# Altium schematic symbol library LAN8700C-AEZG-TR.SchLib: 2 symbols
Pins are listed as number, name and electrical type; pins without a type are passive.

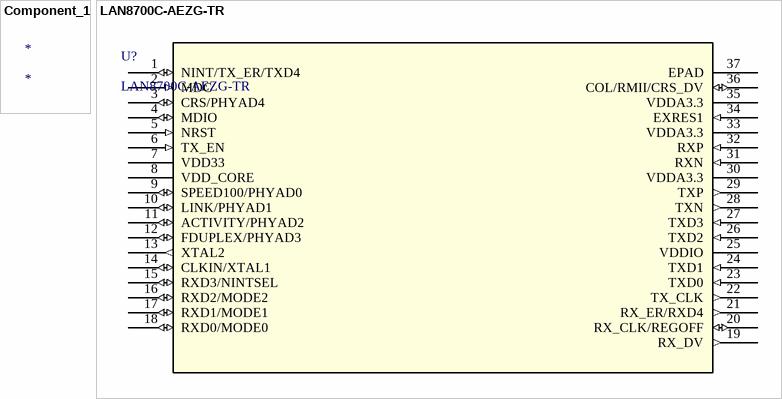
[diagram p0: symbols Component_1 to LAN8700C-AEZG-TR]

## Component_1
designator *

## LAN8700C-AEZG-TR
designator U?
No Description Available; Mfr_Name: Microchip; Copyright: Copyright (C) 2021 Ultra Librarian. All rights reserved.; Manufacturer_Part_Number: LAN8700C-AEZG-TR; Digi-Key_Part_Number_1: LAN8700C-AEZG-CT-ND; Digi-Key_Part_Number_2: LAN8700C-AEZG-DKR-ND; Digi-Key_Part_Number_3: LAN8700C-AEZG-TR-ND; RefDes: RefDes; Type: DEV
footprint QFN36_6X6MC_MCH
pins: 1 NINT/TX_ER/TXD4 (io), 2 MDC (in), 3 CRS/PHYAD4 (io), 4 MDIO (io), 5 NRST (in), 6 TX_EN (in), 7 VDD33 (power), 8 VDD_CORE (power), 9 SPEED100/PHYAD0 (io), 10 LINK/PHYAD1 (io), 11 ACTIVITY/PHYAD2 (io), 12 FDUPLEX/PHYAD3 (io), 13 XTAL2 (out), 14 CLKIN/XTAL1 (io), 15 RXD3/NINTSEL (io), 16 RXD2/MODE2 (io), 17 RXD1/MODE1 (io), 18 RXD0/MODE0 (io), 19 RX_DV (out), 20 RX_CLK/REGOFF (io), 21 RX_ER/RXD4 (out), 22 TX_CLK (out), 23 TXD0 (in), 24 TXD1 (in), 25 VDDIO (power), 26 TXD2 (in), 27 TXD3 (in), 28 TXN (out), 29 TXP (out), 30 VDDA3.3 (power), 31 RXN (in), 32 RXP (in), 33 VDDA3.3 (power), 34 EXRES1 (in), 35 VDDA3.3 (power), 36 COL/RMII/CRS_DV (io), 37 EPAD